# Altium footprint library PCB - CONNECTOR - MOLEX - MOLEX 0039303046.PcbLib: 1 footprints
Each footprint in its own frame and in the unit in brackets; x right, y up, seen from the top. Pads: shape width x height; smd on the part's side, far side on the other; paste and mask are expansions set on the pad; w line width, h text height; cw(c..) or ccw(c..) is an arc to the next point about the centre after c.
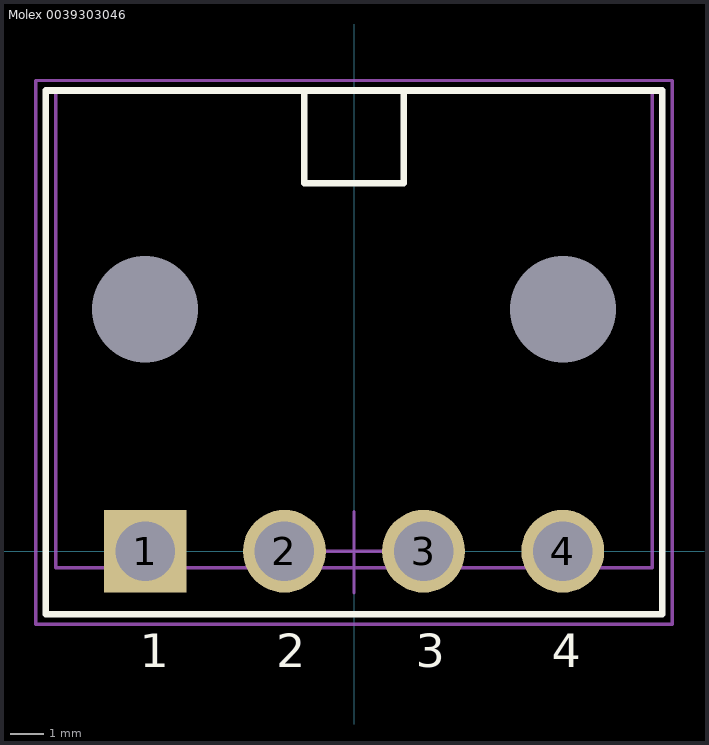
[diagram p0: the footprint, top view; thin cyan lines are the x and y axes]

## Molex 0039303046 [mm] "4 Position Header"
height 5.4
pads (6):
  rect 2.5x2.5 hole 1.8: 1(-6.3,0)
  round 2.5 hole 1.8: 2(-2.1,0) 3(2.1,0) 4(6.3,0)
  round 0 hole 3.2 unplated: HOLE(-6.3,7.3) HOLE(6.3,7.3)
Top Overlay:
  lines w0.2: -1.5,13.9 -1.5,11.1 1.5,11.1 1.5,13.9 ; -9.3,-1.9 -9.3,13.9 9.3,13.9 9.3,-1.9 -9.3,-1.9
  text "1" at -6.469,-3.508 h1.02
  text "2" at -2.339,-3.508 h1.02
  text "3" at 1.861,-3.508 h1.02
  text "4" at 5.961,-3.508 h1.02
Mechanical 13:
  lines w0.1: -9,-0.5 -9,13.9 9,13.9 9,-0.5 -9,-0.5
Mechanical 15 (Mech15):
  lines w0.1: -1.25,0 0,0 ; 0,-1.25 0,0 ; 0,1.2 0,0 ; 1.25,0 0,0 ; -9.6,-2.2 9.6,-2.2 9.6,14.2 -9.6,14.2 -9.6,-2.2
3D body "039303046.stp": height 7.3, standoff -3.4, extent -9,-0.518 9,13.918